# EAGLE library part NRF2401A (library zz-upenn)
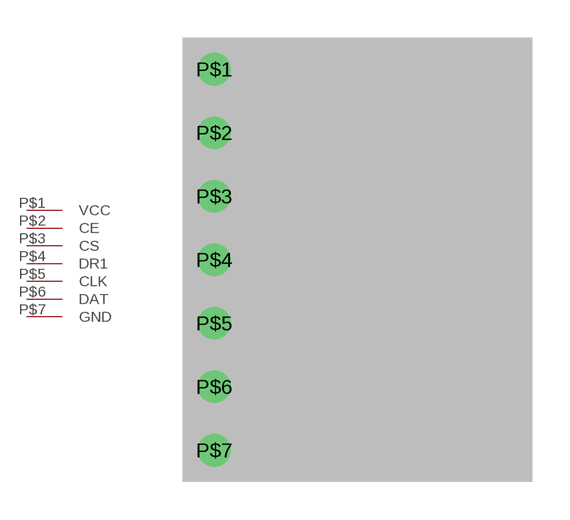
[diagram p12: symbol with the pads of NRF2401A; footprint NRF2401A]

Designator prefix -

## NRF2401A  [NRF2401A]
P$1  VCC
P$2  CE
P$3  CS
P$4  DR1
P$5  CLK
P$6  DAT
P$7  GND

## Footprint NRF2401A (pad centres in mm)
drill 0.8: P$1 0,0; P$2 0,-2.54; P$3 0,-5.08; P$4 0,-7.62; P$5 0,-10.16; P$6 0,-12.7; P$7 0,-15.24